# Altium footprint library 10118192-0001LF.PcbLib: 1 footprints
Each footprint in its own frame and in the unit in brackets; x right, y up, seen from the top. Pads: shape width x height; smd on the part's side, far side on the other; paste and mask are expansions set on the pad; w line width, h text height; cw(c..) or ccw(c..) is an arc to the next point about the centre after c.
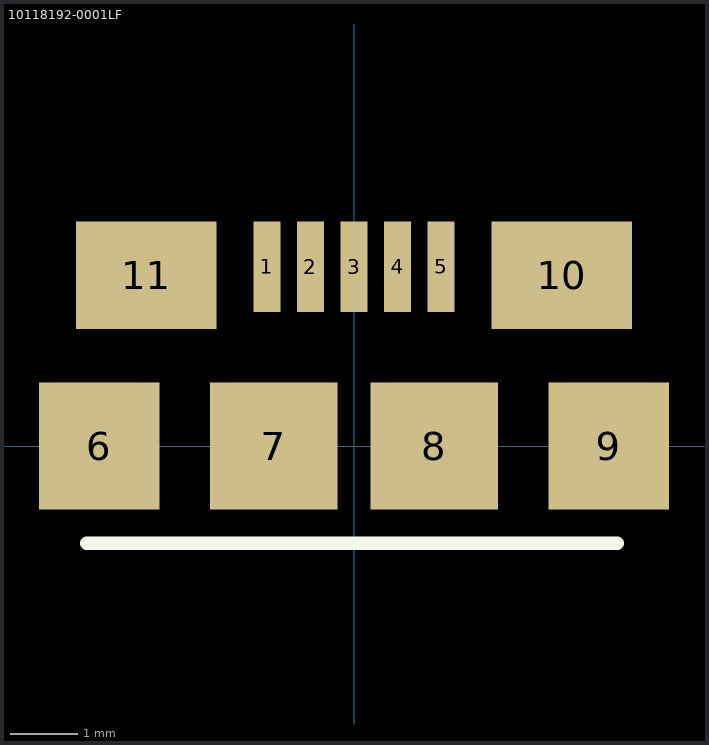
[diagram p0: the footprint, top view; thin cyan lines are the x and y axes]

## 10118192-0001LF [mm]
height 2
pads (11):
  rect 0.4x1.35 smd mask+0.05: 1(-1.3,2.675) 2(-0.65,2.675) 3(0,2.675) 4(0.65,2.675) 5(1.3,2.675)
  rect 1.8x1.9 smd mask+0.05: 6(-3.8,0) 9(3.8,0)
  rect 1.9x1.9 smd mask+0.05: 7(-1.2,0) 8(1.2,0)
  rect 2.1x1.6 smd mask+0.05: 10(3.1,2.55) 11(-3.1,2.55)
Top Overlay:
  lines w0.2: -3.99,-1.45 0,-1.45 3.93,-1.45
3D body "10118192C.stp": height 2.79, standoff -0.22, extent -3.987,-2.728 3.925,2.933